# Altium footprint library SOT23_TO236_SC59.PcbLib: 1 footprints
Each footprint in its own frame and in the unit in brackets; x right, y up, seen from the top. Pads: shape width x height; smd on the part's side, far side on the other; paste and mask are expansions set on the pad; w line width, h text height; cw(c..) or ccw(c..) is an arc to the next point about the centre after c.
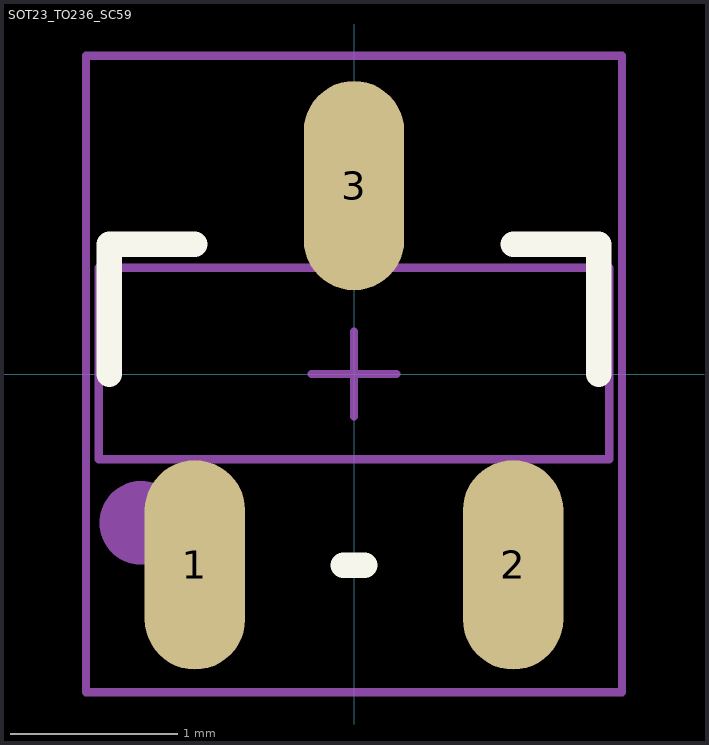
[diagram p0: the footprint, top view; thin cyan lines are the x and y axes]

## SOT23_TO236_SC59 [mm]
pads (3):
  oval 0.6x1.25 smd mask+0.05: 1(-0.95,-1.14) 2(0.95,-1.14) 3(0,1.125)
Top Overlay:
  lines w0.152: -1.46,0 -1.46,0.775 -0.952,0.775 ; -0.063,-1.143 0.064,-1.143 ; 0.953,0.775 1.461,0.775 1.461,0
Top Courtyard:
  lines w0.05: -0.254,0 0.254,0 ; 0,-0.254 0,0.254 ; -1.6,-1.9 1.6,-1.9 1.6,1.9 -1.6,1.9 -1.6,-1.9
Top Assembly:
  circle w0.3: c-1.27,-0.889 r0.1
  lines w0.05: -1.524,-0.508 -1.524,0.635 1.524,0.635 1.524,-0.508 -1.524,-0.508
3D body "SOT23-3.STEP": height 1.29, standoff -0.01, extent -1.45,-1.4 1.45,1.4